# Altium integrated library ARIA Libraries.IntLib: 5 symbols
Pins are listed as number, name and electrical type; pins without a type are passive.

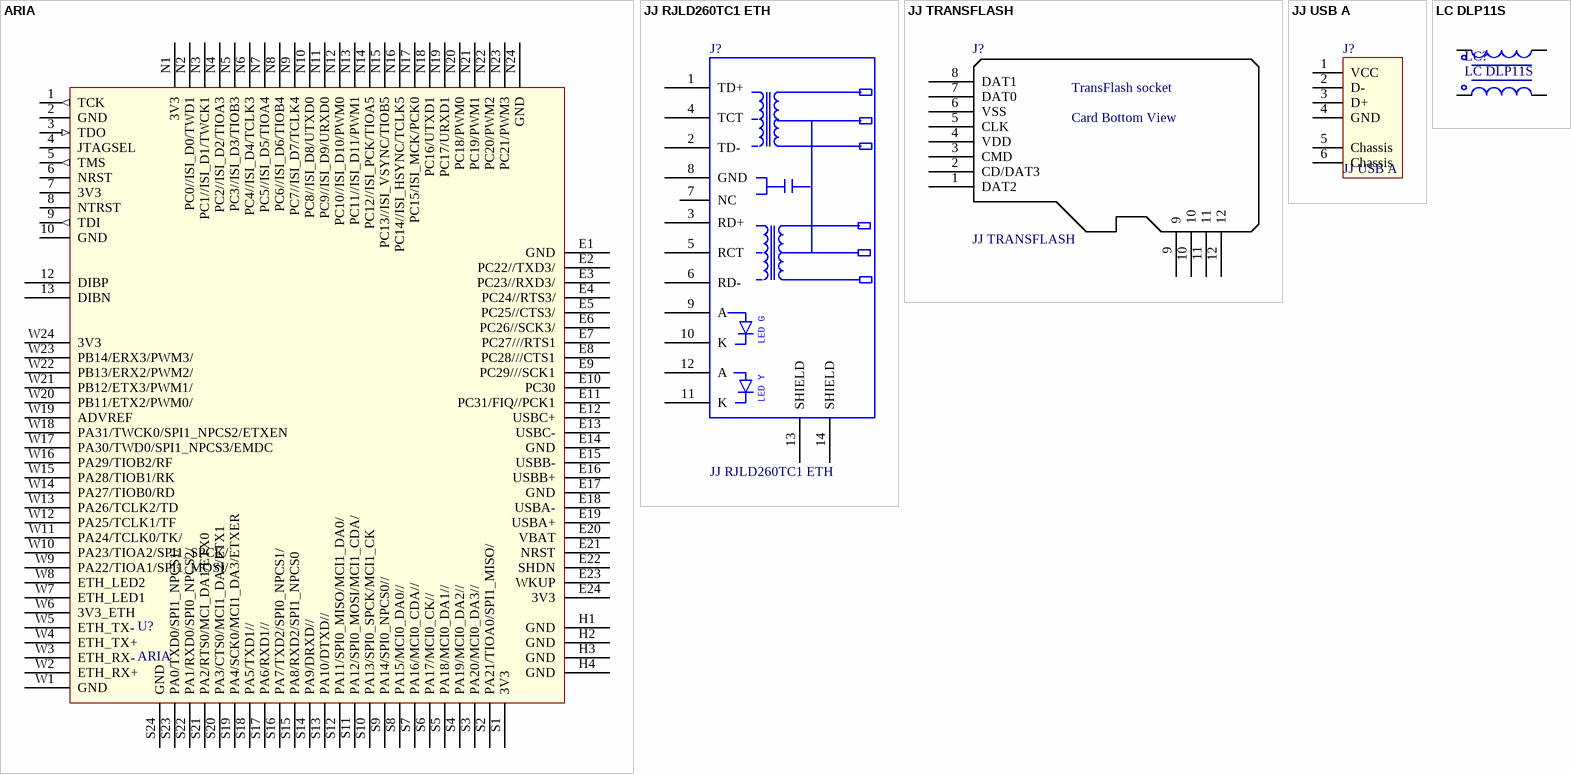
[diagram p0: symbols ARIA to LC DLP11S]

## ARIA
designator U?
footprint AB ARIA 1
pins: 1 TCK (out), 2 GND (power), 3 TDO (in), 4 JTAGSEL, 5 TMS (out), 6 NRST, 7 3V3 (power), 8 NTRST, 9 TDI (out), 10 GND, 12 DIBP, 13 DIBN, E1 GND, E2 PC22//TXD3/, E3 PC23//RXD3/, E4 PC24//RTS3/, E5 PC25//CTS3/, E6 PC26//SCK3/, E7 PC27///RTS1, E8 PC28///CTS1, E9 PC29///SCK1, E10 PC30, E11 PC31/FIQ//PCK1, E12 USBC+, E13 USBC-, E14 GND, E15 USBB-, E16 USBB+, E17 GND, E18 USBA-, E19 USBA+, E20 VBAT, E21 NRST, E22 SHDN, E23 WKUP, E24 3V3, H1 GND, H2 GND, H3 GND, H4 GND, N1 3V3, N2 PC0//ISI_D0/TWD1, N3 PC1//ISI_D1/TWCK1, N4 PC2//ISI_D2/TIOA3, N5 PC3//ISI_D3/TIOB3, N6 PC4//ISI_D4/TCLK3, N7 PC5//ISI_D5/TIOA4, N8 PC6//ISI_D6/TIOB4, N9 PC7//ISI_D7/TCLK4, N10 PC8//ISI_D8/UTXD0, N11 PC9//ISI_D9/URXD0, N12 PC10//ISI_D10/PWM0, N13 PC11//ISI_D11/PWM1, N14 PC12//ISI_PCK/TIOA5, N15 PC13//ISI_VSYNC/TIOB5, N16 PC14//ISI_HSYNC/TCLK5, N17 PC15/ISI_MCK/PCK0, N18 PC16/UTXD1, N19 PC17/URXD1, N20 PC18/PWM0, N21 PC19/PWM1, N22 PC20/PWM2, N23 PC21/PWM3, N24 GND, S1 3V3, S2 PA21/TIOA0/SPI1_MISO/, S3 PA20/MCI0_DA3//, S4 PA19/MCI0_DA2//, S5 PA18/MCI0_DA1//, S6 PA17/MCI0_CK//, S7 PA16/MCI0_CDA//, S8 PA15/MCI0_DA0//, S9 PA14/SPI0_NPCS0//, S10 PA13/SPI0_SPCK/MCI1_CK, S11 PA12/SPI0_MOSI/MCI1_CDA/, S12 PA11/SPI0_MISO/MCI1_DA0/, S13 PA10/DTXD//, S14 PA9/DRXD//, S15 PA8/RXD2/SPI1_NPCS0, S16 PA7/TXD2/SPI0_NPCS1/, S17 PA6/RXD1//, S18 PA5/TXD1//, S19 PA4/SCK0/MCI1_DA3/ETXER, S20 PA3/CTS0/MCI1_DA2/ETX1, S21 PA2/RTS0/MCI_DA1/ETX0, S22 PA1/RXD0/SPI0_NPCS2/, S23 PA0/TXD0/SPI1_NPCS1/, S24 GND, W1 GND (power), W2 ETH_RX+, W3 ETH_RX-, W4 ETH_TX+, W5 ETH_TX-, W6 3V3_ETH, W7 ETH_LED1, W8 ETH_LED2, W9 PA22/TIOA1/SPI1_MOSI/, W10 PA23/TIOA2/SPI1_SPCK/, W11 PA24/TCLK0/TK/, W12 PA25/TCLK1/TF, W13 PA26/TCLK2/TD, W14 PA27/TIOB0/RD, W15 PA28/TIOB1/RK, W16 PA29/TIOB2/RF, W17 PA30/TWD0/SPI1_NPCS3/EMDC, W18 PA31/TWCK0/SPI1_NPCS2/ETXEN, W19 ADVREF, W20 PB11/ETX2/PWM0/, W21 PB12/ETX3/PWM1/, W22 PB13/ERX2/PWM2/, W23 PB14/ERX3/PWM3/, W24 3V3

## JJ RJLD260TC1 ETH
designator J?
ETH connector RJLD-260TC1 TAIMAG; Right: 100; Bottom: 240
footprint RJLD-260TC1 (RJ45 Ethernet connector by TAIMAG)
pins: 1 TD+, 2 TD-, 3 RD+, 4 TCT, 5 RCT, 6 RD-, 7 NC, 8 GND, 9 A, 10 K, 11 K, 12 A, 13 SHIELD, 14 SHIELD
text: LED G; LED Y

## JJ TRANSFLASH
designator J?
Transflash Socket
footprint microSD Socket
pins: 1 DAT2, 2 CD/DAT3, 3 CMD, 4 VDD, 5 CLK, 6 VSS, 7 DAT0, 8 DAT1, 9, 10, 11, 12
text: TransFlash socket; Card Bottom View

## JJ USB A
designator J?
USB 2.0 type A; Right: 30; Bottom: 70
footprint USB2.0-4H4 3D FOX (Connector; USB1.1, Type A, Thru-Hole; 4 Position; Right Angle)
pins: 1 VCC, 2 D-, 3 D+, 4 GND, 5 Chassis, 6 Chassis

## LC DLP11S
designator LC?
Common Mode Choke Coil Film Type; Right: 10; Bottom: 40
footprint LC 0504 (1210 metric)
footprint LC 2020 (5050 metric)
pins: 1, 2, 3, 4